# EAGLE library part RT424F24 (library FSAE Electric)
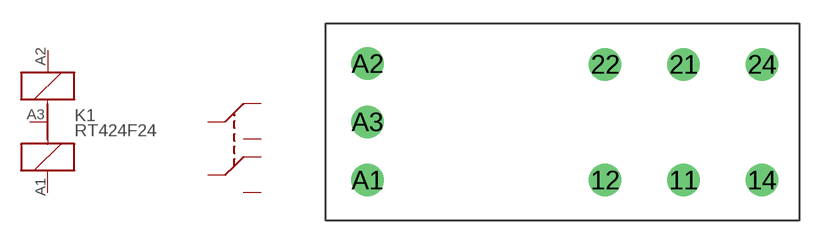
[diagram p49: symbol with the pads of RT424F24; footprint RT424F24]

Designator prefix K1; gates G$3=DPDT G$1=DUAL-COIL

## RT424F24 (PARTNO: RT424F24)  [RT424F24]
11  G$3:C1
12  G$3:NC1
14  G$3:NO1
21  G$3:C2
22  G$3:NC2
24  G$3:NO2
A1  G$1:+1  pas
A2  G$1:+2  pas
A3  G$1:-  pas

## Footprint RT424F24 (pad centres in mm)
drill 1.4: 11 11.6,-3.75; 12 6.55,-3.75; 14 16.65,-3.75; 21 11.6,3.7; 22 6.55,3.7; 24 16.65,3.7; A1 -8.75,-3.75; A2 -8.75,3.75; A3 -8.75,0